# Altium footprint library TH Passive.PcbLib: 8 footprints
Each footprint in its own frame and in the unit in brackets; x right, y up, seen from the top. Pads: shape width x height; smd on the part's side, far side on the other; paste and mask are expansions set on the pad; w line width, h text height; cw(c..) or ccw(c..) is an arc to the next point about the centre after c.
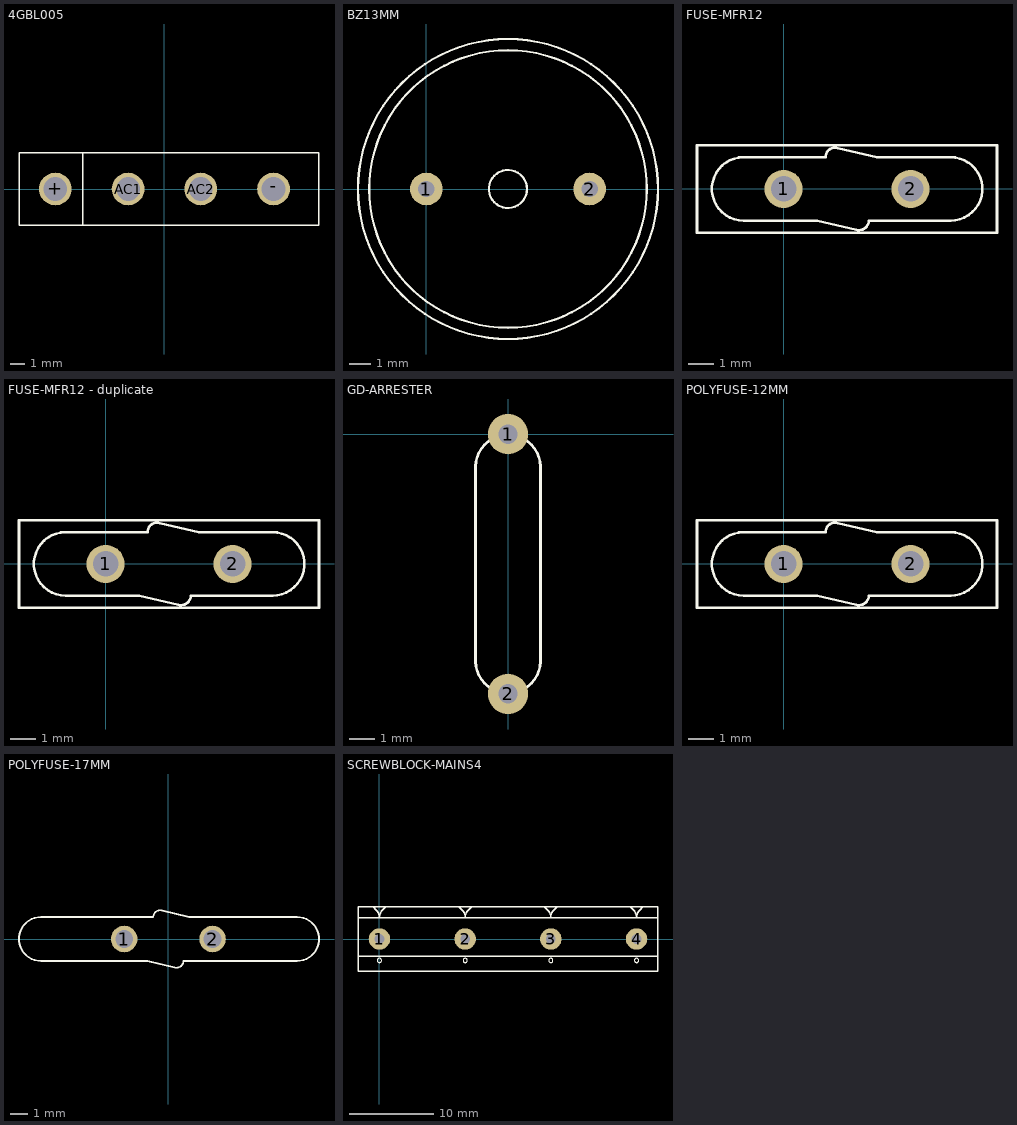
[diagram p0: the footprints below, top view; thin cyan lines are the x and y axes]

## 4GBL005 [mil]
pads (4):
  round 90 hole 65: +(-300,0) -(300,0) AC1(-100,0) AC2(100,0)
Top Overlay:
  lines w4: -225,-100 -225,100 ; -400,-100 425,-100 425,0 425,100 -400,100 -400,-100

## BZ13MM [mil]
pads (2):
  round 60 hole 30: 1(0,0) 2(300,0)
Top Overlay:
  circle w4: c150,0 r35
  circle w4: c150,0 r255
  circle w4: c150,0 r275.59

## FUSE-MFR12 [mil]
pads (2):
  round 60 hole 40: 1(0,0) 2(200,0)
Top Overlay:
  lines w4: -136.37,-69.06 -136.37,68.74 336.07,68.74 336.07,-69.06 -136.37,-69.06 ; -63,-50 cw(c-63,0) -63,50 66,50 cw(c81,50) 85.57,64.29 147,50 263,50 cw(c263,0) 263,-50 134,-50 cw(c119,-50) 114.43,-64.29 53,-50 -63,-50

## FUSE-MFR12 - duplicate [mil]
pads (2):
  round 60 hole 40: 1(0,0) 2(200,0)
Top Overlay:
  lines w4: -136.37,-69.06 -136.37,68.74 336.07,68.74 336.07,-69.06 -136.37,-69.06 ; -63,-50 cw(c-63,0) -63,50 66,50 cw(c81,50) 85.57,64.29 147,50 263,50 cw(c263,0) 263,-50 134,-50 cw(c119,-50) 114.43,-64.29 53,-50 -63,-50

## GD-ARRESTER [mil]
pads (2):
  round 62 hole 30: 1(0,0) 2(0,-400)
Top Overlay:
  lines w4: -50,-350 ccw(c0,-349) 50,-350 50,-50 ccw(c0,-51) -50,-50 -50,-350

## POLYFUSE-12MM [mil]
pads (2):
  round 60 hole 40: 1(0,0) 2(200,0)
Top Overlay:
  lines w4: -136.37,-69.06 336.07,-69.06 336.07,68.74 -136.37,68.74 -136.37,-69.06 ; -63,-50 cw(c-63,0) -63,50 66,50 cw(c81,50) 85.57,64.29 147,50 263,50 cw(c263,0) 263,-50 134,-50 cw(c119,-50) 114.43,-64.29 53,-50 -63,-50

## POLYFUSE-17MM [mil]
pads (2):
  round 60 hole 40: 1(-100,0) 2(100,0)
Top Overlay:
  lines w4: -288,-50 cw(c-288,0) -288,50 -34,50 cw(c-19,50) -14.43,64.29 47,50 291,50 cw(c291,0) 291,-50 34,-50 cw(c19,-50) 14.43,-64.29 -47,-50 -288,-50

## SCREWBLOCK-MAINS4 [mil]
pads (4):
  round 100 hole 45: 1(0,0) 2(400,0) 3(800,0) 4(1200,0)
Top Overlay:
  circle w4: c0,-100 r10
  circle w4: c400,-100 r10
  circle w4: c800,-100 r10
  circle w4: c1200,-100 r10
  lines w6: -100,-80 1300,-80 ; -100,100 1300,100 ; -30,150 -14.14,134.14 cw(c-48.28,100) 0,100 cw(c48.28,100) 14.14,134.14 30,150 ; 370,150 385.86,134.14 cw(c351.72,100) 400,100 cw(c448.28,100) 414.14,134.14 430,150 ; 770,150 785.86,134.14 cw(c751.72,100) 800,100 cw(c848.28,100) 814.14,134.14 830,150 ; 1170,150 1185.86,134.14 cw(c1151.72,100) 1200,100 cw(c1248.28,100) 1214.14,134.14 1230,150 ; -100,-150 1300,-150 1300,150 -100,150 -100,-150